# Altium schematic symbol library Sensor_Current.SchLib: 261 symbols (part 1 of 3)
Pins are listed as number, name and electrical type; pins without a type are passive.

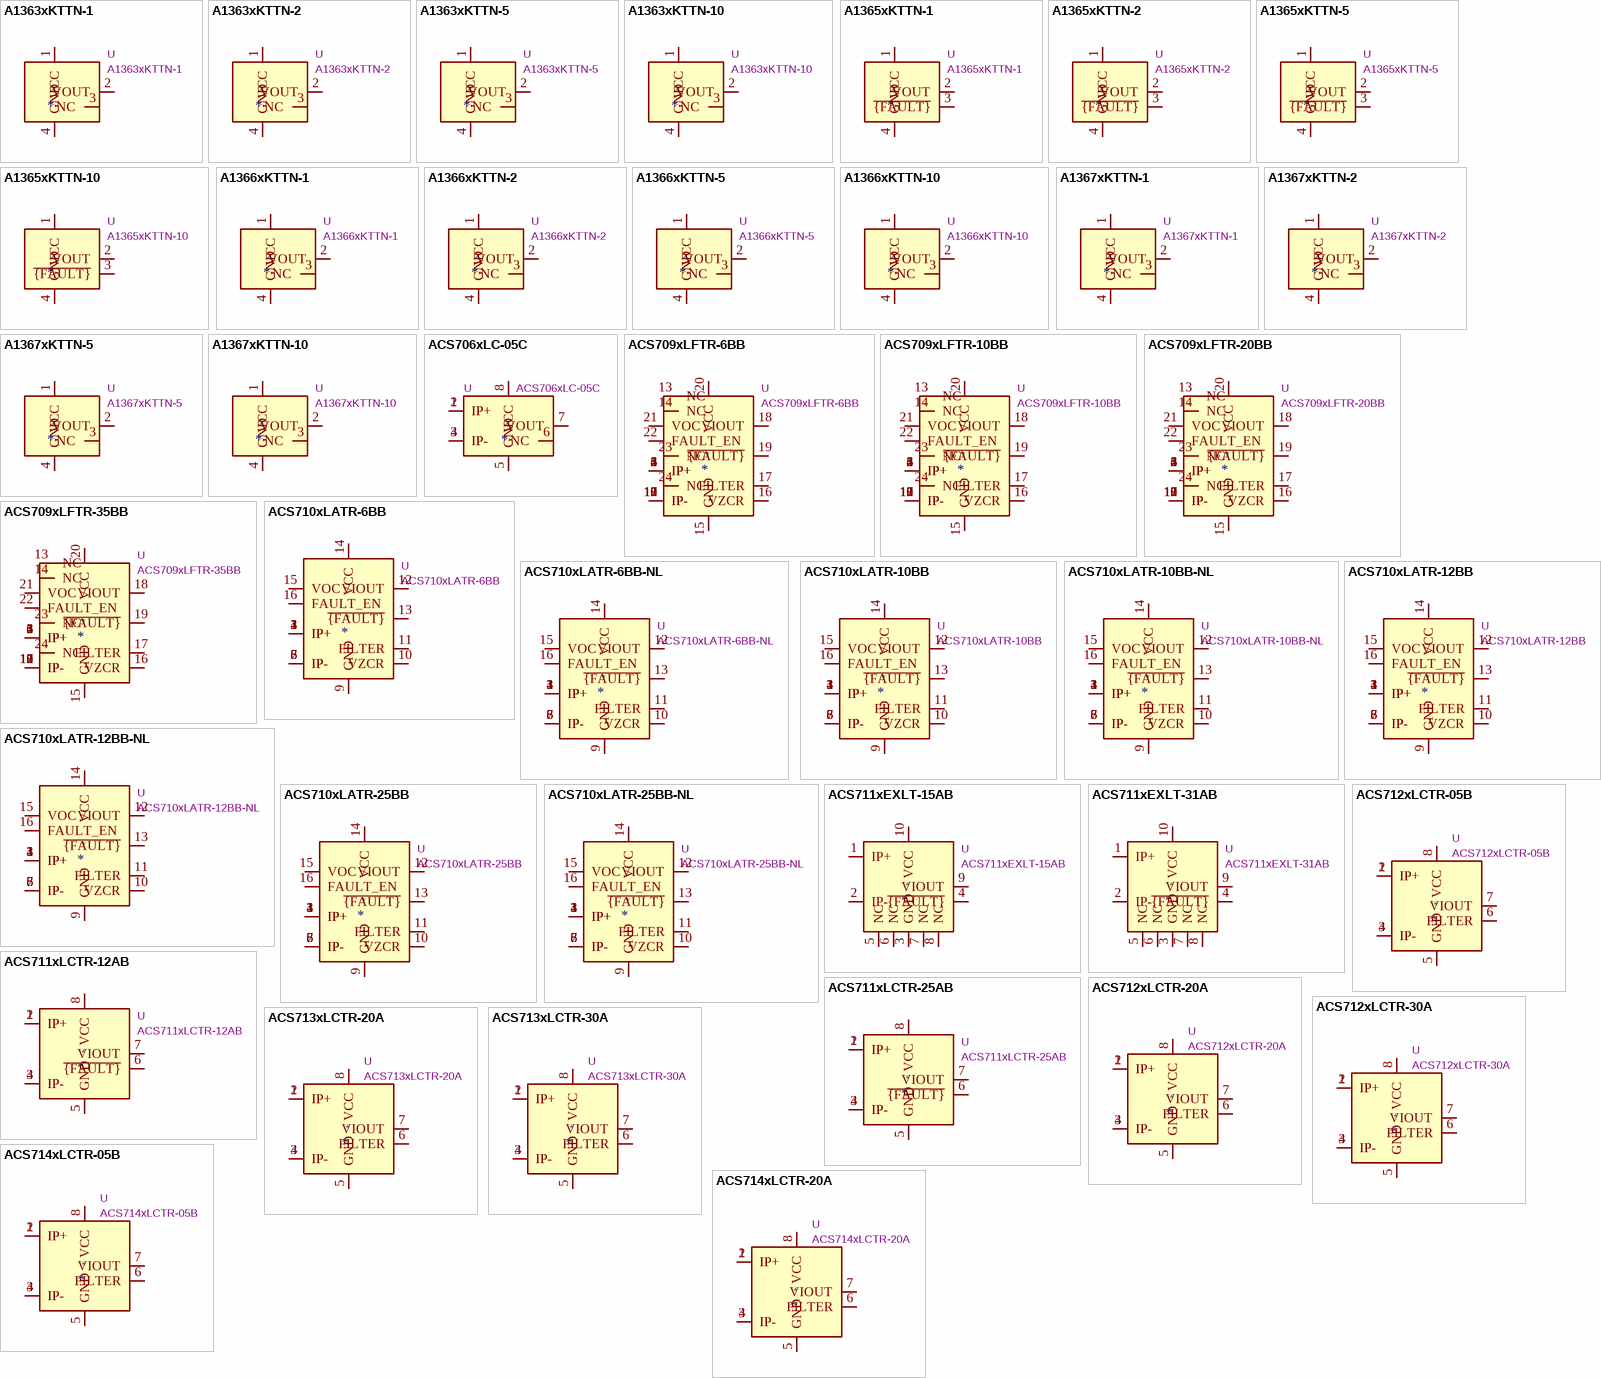
[diagram p0: symbols A1363xKTTN-1 to ACS714xLCTR-20A]

## A1363xKTTN-1
designator *  value A1363xKTTN-1  Reference: U
Programmable Linear Hall Effect Sensor, +0.6 to +1.3mV/G, SIP-4; ki_keywords: hall effect current monitor sensor isolated; ki_fp_filters: Allegro*SIP*; Footprint: Sensor_Current:Allegro_SIP-4; Datasheet: http://www.allegromicro.com/~/media/Files/Datasheets/A1363-Datasheet.ashx?la=en; Description_: Programmable Linear Hall Effect Sensor, +0.6 to +1.3mV/G, SIP-4
pins: 1 VCC, 2 VOUT, 3 NC, 4 GND

## A1363xKTTN-2
designator *  value A1363xKTTN-2  Reference: U
Programmable Linear Hall Effect Sensor, +1.3 to +2.9mV/G, SIP-4; ki_keywords: hall effect current monitor sensor isolated; ki_fp_filters: Allegro*SIP*; Footprint: Sensor_Current:Allegro_SIP-4; Datasheet: http://www.allegromicro.com/~/media/Files/Datasheets/A1363-Datasheet.ashx?la=en; Description_: Programmable Linear Hall Effect Sensor, +1.3 to +2.9mV/G, SIP-4
pins: 1 VCC, 2 VOUT, 3 NC, 4 GND

## A1363xKTTN-5
designator *  value A1363xKTTN-5  Reference: U
Programmable Linear Hall Effect Sensor, +2.9 to +6.4mV/G, SIP-4; ki_keywords: hall effect current monitor sensor isolated; ki_fp_filters: Allegro*SIP*; Footprint: Sensor_Current:Allegro_SIP-4; Datasheet: http://www.allegromicro.com/~/media/Files/Datasheets/A1363-Datasheet.ashx?la=en; Description_: Programmable Linear Hall Effect Sensor, +2.9 to +6.4mV/G, SIP-4
pins: 1 VCC, 2 VOUT, 3 NC, 4 GND

## A1363xKTTN-10
designator *  value A1363xKTTN-10  Reference: U
Programmable Linear Hall Effect Sensor, +6.4 to +14mV/G, SIP-4; ki_keywords: hall effect current monitor sensor isolated; ki_fp_filters: Allegro*SIP*; Footprint: Sensor_Current:Allegro_SIP-4; Datasheet: http://www.allegromicro.com/~/media/Files/Datasheets/A1363-Datasheet.ashx?la=en; Description_: Programmable Linear Hall Effect Sensor, +6.4 to +14mV/G, SIP-4
pins: 1 VCC, 2 VOUT, 3 NC, 4 GND

## A1365xKTTN-1
designator *  value A1365xKTTN-1  Reference: U
Programmable Linear Hall Effect Sensor, +0.6 to +1.3mV/G, SIP-4; ki_keywords: hall effect current monitor sensor isolated; ki_fp_filters: Allegro*SIP*; Footprint: Sensor_Current:Allegro_SIP-4; Datasheet: http://www.allegromicro.com/~/media/Files/Datasheets/A1365-Datasheet.ashx?la=en; Description_: Programmable Linear Hall Effect Sensor, +0.6 to +1.3mV/G, SIP-4
pins: 1 VCC, 2 VOUT, 3 ~{{FAULT}}, 4 GND

## A1365xKTTN-2
designator *  value A1365xKTTN-2  Reference: U
Programmable Linear Hall Effect Sensor, +1.3 to +2.9mV/G, SIP-4; ki_keywords: hall effect current monitor sensor isolated; ki_fp_filters: Allegro*SIP*; Footprint: Sensor_Current:Allegro_SIP-4; Datasheet: http://www.allegromicro.com/~/media/Files/Datasheets/A1365-Datasheet.ashx?la=en; Description_: Programmable Linear Hall Effect Sensor, +1.3 to +2.9mV/G, SIP-4
pins: 1 VCC, 2 VOUT, 3 ~{{FAULT}}, 4 GND

## A1365xKTTN-5
designator *  value A1365xKTTN-5  Reference: U
Programmable Linear Hall Effect Sensor, +2.9 to +6.4mV/G, SIP-4; ki_keywords: hall effect current monitor sensor isolated; ki_fp_filters: Allegro*SIP*; Footprint: Sensor_Current:Allegro_SIP-4; Datasheet: http://www.allegromicro.com/~/media/Files/Datasheets/A1365-Datasheet.ashx?la=en; Description_: Programmable Linear Hall Effect Sensor, +2.9 to +6.4mV/G, SIP-4
pins: 1 VCC, 2 VOUT, 3 ~{{FAULT}}, 4 GND

## A1365xKTTN-10
designator *  value A1365xKTTN-10  Reference: U
Programmable Linear Hall Effect Sensor, +6.4 to +14mV/G, SIP-4; ki_keywords: hall effect current monitor sensor isolated; ki_fp_filters: Allegro*SIP*; Footprint: Sensor_Current:Allegro_SIP-4; Datasheet: http://www.allegromicro.com/~/media/Files/Datasheets/A1365-Datasheet.ashx?la=en; Description_: Programmable Linear Hall Effect Sensor, +6.4 to +14mV/G, SIP-4
pins: 1 VCC, 2 VOUT, 3 ~{{FAULT}}, 4 GND

## A1366xKTTN-1
designator *  value A1366xKTTN-1  Reference: U
Programmable Linear Hall Effect Sensor, +1mV/G, SIP-4; ki_keywords: hall effect current monitor sensor isolated; ki_fp_filters: Allegro*SIP*; Footprint: Sensor_Current:Allegro_SIP-4; Datasheet: http://www.allegromicro.com/~/media/Files/Datasheets/A1366-Datasheet.ashx?la=en; Description_: Programmable Linear Hall Effect Sensor, +1mV/G, SIP-4
pins: 1 VCC, 2 VOUT, 3 NC, 4 GND

## A1366xKTTN-2
designator *  value A1366xKTTN-2  Reference: U
Programmable Linear Hall Effect Sensor, +2.5mV/G, SIP-4; ki_keywords: hall effect current monitor sensor isolated; ki_fp_filters: Allegro*SIP*; Footprint: Sensor_Current:Allegro_SIP-4; Datasheet: http://www.allegromicro.com/~/media/Files/Datasheets/A1366-Datasheet.ashx?la=en; Description_: Programmable Linear Hall Effect Sensor, +2.5mV/G, SIP-4
pins: 1 VCC, 2 VOUT, 3 NC, 4 GND

## A1366xKTTN-5
designator *  value A1366xKTTN-5  Reference: U
Programmable Linear Hall Effect Sensor, +5mV/G, SIP-4; ki_keywords: hall effect current monitor sensor isolated; ki_fp_filters: Allegro*SIP*; Footprint: Sensor_Current:Allegro_SIP-4; Datasheet: http://www.allegromicro.com/~/media/Files/Datasheets/A1366-Datasheet.ashx?la=en; Description_: Programmable Linear Hall Effect Sensor, +5mV/G, SIP-4
pins: 1 VCC, 2 VOUT, 3 NC, 4 GND

## A1366xKTTN-10
designator *  value A1366xKTTN-10  Reference: U
Programmable Linear Hall Effect Sensor, +10mV/G, SIP-4; ki_keywords: hall effect current monitor sensor isolated; ki_fp_filters: Allegro*SIP*; Footprint: Sensor_Current:Allegro_SIP-4; Datasheet: http://www.allegromicro.com/~/media/Files/Datasheets/A1366-Datasheet.ashx?la=en; Description_: Programmable Linear Hall Effect Sensor, +10mV/G, SIP-4
pins: 1 VCC, 2 VOUT, 3 NC, 4 GND

## A1367xKTTN-1
designator *  value A1367xKTTN-1  Reference: U
Programmable Linear Hall Effect Sensor, +0.6 to +1.3mV/G, SIP-4; ki_keywords: hall effect current monitor sensor isolated; ki_fp_filters: Allegro*SIP*; Footprint: Sensor_Current:Allegro_SIP-4; Datasheet: http://www.allegromicro.com/~/media/Files/Datasheets/A1367-Datasheet.ashx?la=en; Description_: Programmable Linear Hall Effect Sensor, +0.6 to +1.3mV/G, SIP-4
pins: 1 VCC, 2 VOUT, 3 NC, 4 GND

## A1367xKTTN-2
designator *  value A1367xKTTN-2  Reference: U
Programmable Linear Hall Effect Sensor, +1.3 to +2.9mV/G, SIP-4; ki_keywords: hall effect current monitor sensor isolated; ki_fp_filters: Allegro*SIP*; Footprint: Sensor_Current:Allegro_SIP-4; Datasheet: http://www.allegromicro.com/~/media/Files/Datasheets/A1367-Datasheet.ashx?la=en; Description_: Programmable Linear Hall Effect Sensor, +1.3 to +2.9mV/G, SIP-4
pins: 1 VCC, 2 VOUT, 3 NC, 4 GND

## A1367xKTTN-5
designator *  value A1367xKTTN-5  Reference: U
Programmable Linear Hall Effect Sensor, +2.9 to +6.4mV/G, SIP-4; ki_keywords: hall effect current monitor sensor isolated; ki_fp_filters: Allegro*SIP*; Footprint: Sensor_Current:Allegro_SIP-4; Datasheet: http://www.allegromicro.com/~/media/Files/Datasheets/A1367-Datasheet.ashx?la=en; Description_: Programmable Linear Hall Effect Sensor, +2.9 to +6.4mV/G, SIP-4
pins: 1 VCC, 2 VOUT, 3 NC, 4 GND

## A1367xKTTN-10
designator *  value A1367xKTTN-10  Reference: U
Programmable Linear Hall Effect Sensor, +6.4 to +14mV/G, SIP-4; ki_keywords: hall effect current monitor sensor isolated; ki_fp_filters: Allegro*SIP*; Footprint: Sensor_Current:Allegro_SIP-4; Datasheet: http://www.allegromicro.com/~/media/Files/Datasheets/A1367-Datasheet.ashx?la=en; Description_: Programmable Linear Hall Effect Sensor, +6.4 to +14mV/G, SIP-4
pins: 1 VCC, 2 VOUT, 3 NC, 4 GND

## ACS706xLC-05C
designator *  value ACS706xLC-05C  Reference: U
±15A Bidirectional Hall Effect Linear Current Sensor, +5.0V supply, 133mV/A, SOIC-8, OBSOLETE; ki_keywords: hall effect current monitor sensor isolated obsolete; ki_fp_filters: SOIC*3.9x4.9mm*P1.27mm*; Footprint: Package_SO:SOIC-8_3.9x4.9mm_P1.27mm; Datasheet: http://www.allegromicro.com/~/media/Files/Datasheets/ACS706ELC-05C-Datasheet.ashx; Description_: ±15A Bidirectional Hall Effect Linear Current Sensor, +5.0V supply, 133mV/A, SOIC-8, OBSOLETE
pins: 1 IP+, 2 IP+, 3 IP-, 4 IP-, 5 GND, 6 NC, 7 VOUT, 8 VCC

## ACS709xLFTR-6BB
designator *  value ACS709xLFTR-6BB  Reference: U
±15A Bidirectional, Hall-Effect Current Sensor, +3.3V to +5.0V supply, 90mV/A @ +3.3V, QSOP-24; ki_keywords: hall effect current monitor sensor isolated; ki_fp_filters: Allegro*QSOP*3.9x8.7mm*P0.635mm*; Footprint: Sensor_Current:Allegro_QSOP-24_3.9x8.7mm_P0.635mm; Datasheet: http://www.allegromicro.com/~/media/Files/Datasheets/ACS709-Datasheet.ashx?la=en; Description_: ±15A Bidirectional, Hall-Effect Current Sensor, +3.3V to +5.0V supply, 90mV/A @ +3.3V, QSOP-24
pins: 1 IP+, 2 IP+, 3 IP+, 4 IP+, 5 IP+, 6 IP+, 7 IP-, 8 IP-, 9 IP-, 10 IP-, 11 IP-, 12 IP-, 13 NC, 14 NC, 15 GND, 16 VZCR, 17 FILTER, 18 VIOUT, 19 ~{{FAULT}}, 20 VCC, 21 VOC, 22 FAULT_EN, 23 NC, 24 NC

## ACS709xLFTR-10BB
designator *  value ACS709xLFTR-10BB  Reference: U
±24A Bidirectional, Hall-Effect Current Sensor, +3.3V to +5.0V supply, 85mV/A @ +3.3V, QSOP-24; ki_keywords: hall effect current monitor sensor isolated; ki_fp_filters: Allegro*QSOP*3.9x8.7mm*P0.635mm*; Footprint: Sensor_Current:Allegro_QSOP-24_3.9x8.7mm_P0.635mm; Datasheet: http://www.allegromicro.com/~/media/Files/Datasheets/ACS709-Datasheet.ashx?la=en; Description_: ±24A Bidirectional, Hall-Effect Current Sensor, +3.3V to +5.0V supply, 85mV/A @ +3.3V, QSOP-24
pins: 1 IP+, 2 IP+, 3 IP+, 4 IP+, 5 IP+, 6 IP+, 7 IP-, 8 IP-, 9 IP-, 10 IP-, 11 IP-, 12 IP-, 13 NC, 14 NC, 15 GND, 16 VZCR, 17 FILTER, 18 VIOUT, 19 ~{{FAULT}}, 20 VCC, 21 VOC, 22 FAULT_EN, 23 NC, 24 NC

## ACS709xLFTR-20BB
designator *  value ACS709xLFTR-20BB  Reference: U
±37.5A Bidirectional, Hall-Effect Current Sensor, +3.3V to +5.0V supply, 56mV/A @ +3.3V, QSOP-24; ki_keywords: hall effect current monitor sensor isolated; ki_fp_filters: Allegro*QSOP*3.9x8.7mm*P0.635mm*; Footprint: Sensor_Current:Allegro_QSOP-24_3.9x8.7mm_P0.635mm; Datasheet: http://www.allegromicro.com/~/media/Files/Datasheets/ACS709-Datasheet.ashx?la=en; Description_: ±37.5A Bidirectional, Hall-Effect Current Sensor, +3.3V to +5.0V supply, 56mV/A @ +3.3V, QSOP-24
pins: 1 IP+, 2 IP+, 3 IP+, 4 IP+, 5 IP+, 6 IP+, 7 IP-, 8 IP-, 9 IP-, 10 IP-, 11 IP-, 12 IP-, 13 NC, 14 NC, 15 GND, 16 VZCR, 17 FILTER, 18 VIOUT, 19 ~{{FAULT}}, 20 VCC, 21 VOC, 22 FAULT_EN, 23 NC, 24 NC

## ACS709xLFTR-35BB
designator *  value ACS709xLFTR-35BB  Reference: U
±75A Bidirectional, Hall-Effect Current Sensor, +3.3V to +5.0V supply, 28mV/A @ +3.3V, QSOP-24; ki_keywords: hall effect current monitor sensor isolated; ki_fp_filters: Allegro*QSOP*3.9x8.7mm*P0.635mm*; Footprint: Sensor_Current:Allegro_QSOP-24_3.9x8.7mm_P0.635mm; Datasheet: http://www.allegromicro.com/~/media/Files/Datasheets/ACS709-Datasheet.ashx?la=en; Description_: ±75A Bidirectional, Hall-Effect Current Sensor, +3.3V to +5.0V supply, 28mV/A @ +3.3V, QSOP-24
pins: 1 IP+, 2 IP+, 3 IP+, 4 IP+, 5 IP+, 6 IP+, 7 IP-, 8 IP-, 9 IP-, 10 IP-, 11 IP-, 12 IP-, 13 NC, 14 NC, 15 GND, 16 VZCR, 17 FILTER, 18 VIOUT, 19 ~{{FAULT}}, 20 VCC, 21 VOC, 22 FAULT_EN, 23 NC, 24 NC

## ACS710xLATR-6BB
designator *  value ACS710xLATR-6BB  Reference: U
±6A Bidirectional, Hall-Effect Current Sensor, Latched Fault, +3.3V to +5.0V supply, 151mV/A @ +5.0V, SOIC-16W; ki_keywords: hall effect current monitor sensor isolated; ki_fp_filters: SOIC*7.5x10.3mm*P1.27mm*; Footprint: Package_SO:SOIC-16W_7.5x10.3mm_P1.27mm; Datasheet: http://www.allegromicro.com/~/media/Files/Datasheets/ACS710-Datasheet.ashx?la=en; Description_: ±6A Bidirectional, Hall-Effect Current Sensor, Latched Fault, +3.3V to +5.0V supply, 151mV/A @ +5.0V, SOIC-16W
pins: 1 IP+, 2 IP+, 3 IP+, 4 IP+, 5 IP-, 6 IP-, 7 IP-, 8 IP-, 9 GND, 10 VZCR, 11 FILTER, 12 VIOUT, 13 ~{{FAULT}}, 14 VCC, 15 VOC, 16 FAULT_EN

## ACS710xLATR-6BB-NL
designator *  value ACS710xLATR-6BB-NL  Reference: U
±6A Bidirectional, Hall-Effect Current Sensor, +3.3V to +5.0V supply, 151mV/A @ +5.0V, SOIC-16W; ki_keywords: hall effect current monitor sensor isolated; ki_fp_filters: SOIC*7.5x10.3mm*P1.27mm*; Footprint: Package_SO:SOIC-16W_7.5x10.3mm_P1.27mm; Datasheet: http://www.allegromicro.com/~/media/Files/Datasheets/ACS710-Datasheet.ashx?la=en; Description_: ±6A Bidirectional, Hall-Effect Current Sensor, +3.3V to +5.0V supply, 151mV/A @ +5.0V, SOIC-16W
pins: 1 IP+, 2 IP+, 3 IP+, 4 IP+, 5 IP-, 6 IP-, 7 IP-, 8 IP-, 9 GND, 10 VZCR, 11 FILTER, 12 VIOUT, 13 ~{{FAULT}}, 14 VCC, 15 VOC, 16 FAULT_EN

## ACS710xLATR-10BB
designator *  value ACS710xLATR-10BB  Reference: U
±12A Bidirectional, Hall-Effect Current Sensor, Latched Fault, +3.3V to +5.0V supply, 85mV/A @ +5.0V, SOIC-16W; ki_keywords: hall effect current monitor sensor isolated; ki_fp_filters: SOIC*7.5x10.3mm*P1.27mm*; Footprint: Package_SO:SOIC-16W_7.5x10.3mm_P1.27mm; Datasheet: http://www.allegromicro.com/~/media/Files/Datasheets/ACS710-Datasheet.ashx?la=en; Description_: ±12A Bidirectional, Hall-Effect Current Sensor, Latched Fault, +3.3V to +5.0V supply, 85mV/A @ +5.0V, SOIC-16W
pins: 1 IP+, 2 IP+, 3 IP+, 4 IP+, 5 IP-, 6 IP-, 7 IP-, 8 IP-, 9 GND, 10 VZCR, 11 FILTER, 12 VIOUT, 13 ~{{FAULT}}, 14 VCC, 15 VOC, 16 FAULT_EN

## ACS710xLATR-10BB-NL
designator *  value ACS710xLATR-10BB-NL  Reference: U
±12A Bidirectional, Hall-Effect Current Sensor, +3.3V to +5.0V supply, 85mV/A @ +5.0V, SOIC-16W; ki_keywords: hall effect current monitor sensor isolated; ki_fp_filters: SOIC*7.5x10.3mm*P1.27mm*; Footprint: Package_SO:SOIC-16W_7.5x10.3mm_P1.27mm; Datasheet: http://www.allegromicro.com/~/media/Files/Datasheets/ACS710-Datasheet.ashx?la=en; Description_: ±12A Bidirectional, Hall-Effect Current Sensor, +3.3V to +5.0V supply, 85mV/A @ +5.0V, SOIC-16W
pins: 1 IP+, 2 IP+, 3 IP+, 4 IP+, 5 IP-, 6 IP-, 7 IP-, 8 IP-, 9 GND, 10 VZCR, 11 FILTER, 12 VIOUT, 13 ~{{FAULT}}, 14 VCC, 15 VOC, 16 FAULT_EN

## ACS710xLATR-12BB
designator *  value ACS710xLATR-12BB  Reference: U
±12.5A Bidirectional, Hall-Effect Current Sensor, Latched Fault, +3.3V to +5.0V supply, 56mV/A @ +5.0V, SOIC-16W; ki_keywords: hall effect current monitor sensor isolated; ki_fp_filters: SOIC*7.5x10.3mm*P1.27mm*; Footprint: Package_SO:SOIC-16W_7.5x10.3mm_P1.27mm; Datasheet: http://www.allegromicro.com/~/media/Files/Datasheets/ACS710-Datasheet.ashx?la=en; Description_: ±12.5A Bidirectional, Hall-Effect Current Sensor, Latched Fault, +3.3V to +5.0V supply, 56mV/A @ +5.0V, SOIC-16W
pins: 1 IP+, 2 IP+, 3 IP+, 4 IP+, 5 IP-, 6 IP-, 7 IP-, 8 IP-, 9 GND, 10 VZCR, 11 FILTER, 12 VIOUT, 13 ~{{FAULT}}, 14 VCC, 15 VOC, 16 FAULT_EN

## ACS710xLATR-12BB-NL
designator *  value ACS710xLATR-12BB-NL  Reference: U
±12.5A Bidirectional, Hall-Effect Current Sensor, +3.3V to +5.0V supply, 56mV/A @ +5.0V, SOIC-16W; ki_keywords: hall effect current monitor sensor isolated; ki_fp_filters: SOIC*7.5x10.3mm*P1.27mm*; Footprint: Package_SO:SOIC-16W_7.5x10.3mm_P1.27mm; Datasheet: http://www.allegromicro.com/~/media/Files/Datasheets/ACS710-Datasheet.ashx?la=en; Description_: ±12.5A Bidirectional, Hall-Effect Current Sensor, +3.3V to +5.0V supply, 56mV/A @ +5.0V, SOIC-16W
pins: 1 IP+, 2 IP+, 3 IP+, 4 IP+, 5 IP-, 6 IP-, 7 IP-, 8 IP-, 9 GND, 10 VZCR, 11 FILTER, 12 VIOUT, 13 ~{{FAULT}}, 14 VCC, 15 VOC, 16 FAULT_EN

## ACS710xLATR-25BB
designator *  value ACS710xLATR-25BB  Reference: U
±25A Bidirectional, Hall-Effect Current Sensor, Latched Fault, +3.3V to +5.0V supply, 28mV/A @ +5.0V, SOIC-16W; ki_keywords: hall effect current monitor sensor isolated; ki_fp_filters: SOIC*7.5x10.3mm*P1.27mm*; Footprint: Package_SO:SOIC-16W_7.5x10.3mm_P1.27mm; Datasheet: http://www.allegromicro.com/~/media/Files/Datasheets/ACS710-Datasheet.ashx?la=en; Description_: ±25A Bidirectional, Hall-Effect Current Sensor, Latched Fault, +3.3V to +5.0V supply, 28mV/A @ +5.0V, SOIC-16W
pins: 1 IP+, 2 IP+, 3 IP+, 4 IP+, 5 IP-, 6 IP-, 7 IP-, 8 IP-, 9 GND, 10 VZCR, 11 FILTER, 12 VIOUT, 13 ~{{FAULT}}, 14 VCC, 15 VOC, 16 FAULT_EN

## ACS710xLATR-25BB-NL
designator *  value ACS710xLATR-25BB-NL  Reference: U
±25A Bidirectional, Hall-Effect Current Sensor, +3.3V to +5.0V supply, 28mV/A @ +5.0V, SOIC-16W; ki_keywords: hall effect current monitor sensor isolated; ki_fp_filters: SOIC*7.5x10.3mm*P1.27mm*; Footprint: Package_SO:SOIC-16W_7.5x10.3mm_P1.27mm; Datasheet: http://www.allegromicro.com/~/media/Files/Datasheets/ACS710-Datasheet.ashx?la=en; Description_: ±25A Bidirectional, Hall-Effect Current Sensor, +3.3V to +5.0V supply, 28mV/A @ +5.0V, SOIC-16W
pins: 1 IP+, 2 IP+, 3 IP+, 4 IP+, 5 IP-, 6 IP-, 7 IP-, 8 IP-, 9 GND, 10 VZCR, 11 FILTER, 12 VIOUT, 13 ~{{FAULT}}, 14 VCC, 15 VOC, 16 FAULT_EN

## ACS711xEXLT-15AB
designator *  value ACS711xEXLT-15AB  Reference: U
±15A Bidirectional Hall-Effect Current Sensor, +3.3V supply, 90mV/A, QFN-12; ki_keywords: hall effect current monitor sensor isolated; ki_fp_filters: Allegro*QFN*EP*3x3mm*P0.5mm*; Footprint: Sensor_Current:Allegro_QFN-12-10-1EP_3x3mm_P0.5mm; Datasheet: http://www.allegromicro.com/~/Media/Files/Datasheets/ACS711-Datasheet.ashx; Description_: ±15A Bidirectional Hall-Effect Current Sensor, +3.3V supply, 90mV/A, QFN-12
pins: 1 IP+, 2 IP-, 3 GND, 4 ~{{FAULT}}, 5 NC, 6 NC, 7 NC, 8 NC, 9 VIOUT, 10 VCC

## ACS711xEXLT-31AB
designator *  value ACS711xEXLT-31AB  Reference: U
±31A Bidirectional, Hall-Effect Current Sensor, +3.3V supply, 45mV/A, QFN-12; ki_keywords: hall effect current monitor sensor isolated; ki_fp_filters: Allegro*QFN*EP*3x3mm*P0.5mm*; Footprint: Sensor_Current:Allegro_QFN-12-10-1EP_3x3mm_P0.5mm; Datasheet: http://www.allegromicro.com/~/Media/Files/Datasheets/ACS711-Datasheet.ashx; Description_: ±31A Bidirectional, Hall-Effect Current Sensor, +3.3V supply, 45mV/A, QFN-12
pins: 1 IP+, 2 IP-, 3 GND, 4 ~{{FAULT}}, 5 NC, 6 NC, 7 NC, 8 NC, 9 VIOUT, 10 VCC

## ACS711xLCTR-12AB
designator *  value ACS711xLCTR-12AB  Reference: U
±12.5A Bidirectional Hall-Effect Current Sensor, +3.3V supply, 110mV/A, SOIC-8; ki_keywords: hall effect current monitor sensor isolated; ki_fp_filters: SOIC*3.9x4.9mm*P1.27mm*; Footprint: Package_SO:SOIC-8_3.9x4.9mm_P1.27mm; Datasheet: http://www.allegromicro.com/~/Media/Files/Datasheets/ACS711-Datasheet.ashx; Description_: ±12.5A Bidirectional Hall-Effect Current Sensor, +3.3V supply, 110mV/A, SOIC-8
pins: 1 IP+, 2 IP+, 3 IP-, 4 IP-, 5 GND, 6 ~{{FAULT}}, 7 VIOUT, 8 VCC

## ACS711xLCTR-25AB
designator *  value ACS711xLCTR-25AB  Reference: U
±25A, Bidirectional, Hall-Effect Current Sensor, +3.3V supply, 55mV/A, SOIC-8; ki_keywords: hall effect current monitor sensor isolated; ki_fp_filters: SOIC*3.9x4.9mm*P1.27mm*; Footprint: Package_SO:SOIC-8_3.9x4.9mm_P1.27mm; Datasheet: http://www.allegromicro.com/~/Media/Files/Datasheets/ACS711-Datasheet.ashx; Description_: ±25A, Bidirectional, Hall-Effect Current Sensor, +3.3V supply, 55mV/A, SOIC-8
pins: 1 IP+, 2 IP+, 3 IP-, 4 IP-, 5 GND, 6 ~{{FAULT}}, 7 VIOUT, 8 VCC

## ACS712xLCTR-05B
designator *  value ACS712xLCTR-05B  Reference: U
±5A Bidirectional Hall-Effect Current Sensor, +5.0V supply, 185mV/A, SOIC-8; ki_keywords: hall effect current monitor sensor isolated; ki_fp_filters: SOIC*3.9x4.9m*P1.27mm*; Footprint: Package_SO:SOIC-8_3.9x4.9mm_P1.27mm; Datasheet: http://www.allegromicro.com/~/media/Files/Datasheets/ACS712-Datasheet.ashx?la=en; Description_: ±5A Bidirectional Hall-Effect Current Sensor, +5.0V supply, 185mV/A, SOIC-8
pins: 1 IP+, 2 IP+, 3 IP-, 4 IP-, 5 GND, 6 FILTER, 7 VIOUT, 8 VCC

## ACS712xLCTR-20A
designator *  value ACS712xLCTR-20A  Reference: U
±20A Bidirectional Hall-Effect Current Sensor, +5.0V supply, 100mV/A, SOIC-8; ki_keywords: hall effect current monitor sensor isolated; ki_fp_filters: SOIC*3.9x4.9m*P1.27mm*; Footprint: Package_SO:SOIC-8_3.9x4.9mm_P1.27mm; Datasheet: http://www.allegromicro.com/~/media/Files/Datasheets/ACS712-Datasheet.ashx?la=en; Description_: ±20A Bidirectional Hall-Effect Current Sensor, +5.0V supply, 100mV/A, SOIC-8
pins: 1 IP+, 2 IP+, 3 IP-, 4 IP-, 5 GND, 6 FILTER, 7 VIOUT, 8 VCC

## ACS712xLCTR-30A
designator *  value ACS712xLCTR-30A  Reference: U
±30A Bidirectional Hall-Effect Current Sensor, +5.0V supply, 66mV/A, SOIC-8; ki_keywords: hall effect current monitor sensor isolated; ki_fp_filters: SOIC*3.9x4.9m*P1.27mm*; Footprint: Package_SO:SOIC-8_3.9x4.9mm_P1.27mm; Datasheet: http://www.allegromicro.com/~/media/Files/Datasheets/ACS712-Datasheet.ashx?la=en; Description_: ±30A Bidirectional Hall-Effect Current Sensor, +5.0V supply, 66mV/A, SOIC-8
pins: 1 IP+, 2 IP+, 3 IP-, 4 IP-, 5 GND, 6 FILTER, 7 VIOUT, 8 VCC

## ACS713xLCTR-20A
designator *  value ACS713xLCTR-20A  Reference: U
20A Unidirectional Hall-Effect Current Sensor, +5.0V supply, 185mV/A, SOIC-8; ki_keywords: hall effect current monitor sensor isolated; ki_fp_filters: SOIC*3.9x4.9m*P1.27mm*; Footprint: Package_SO:SOIC-8_3.9x4.9mm_P1.27mm; Datasheet: http://www.allegromicro.com/~/media/Files/Datasheets/ACS713-Datasheet.ashx?la=en; Description_: 20A Unidirectional Hall-Effect Current Sensor, +5.0V supply, 185mV/A, SOIC-8
pins: 1 IP+, 2 IP+, 3 IP-, 4 IP-, 5 GND, 6 FILTER, 7 VIOUT, 8 VCC

## ACS713xLCTR-30A
designator *  value ACS713xLCTR-30A  Reference: U
30A Unidirectional Hall-Effect Current Sensor, +5.0V supply, 133mV/A, SOIC-8; ki_keywords: hall effect current monitor sensor isolated; ki_fp_filters: SOIC*3.9x4.9m*P1.27mm*; Footprint: Package_SO:SOIC-8_3.9x4.9mm_P1.27mm; Datasheet: http://www.allegromicro.com/~/media/Files/Datasheets/ACS713-Datasheet.ashx?la=en; Description_: 30A Unidirectional Hall-Effect Current Sensor, +5.0V supply, 133mV/A, SOIC-8
pins: 1 IP+, 2 IP+, 3 IP-, 4 IP-, 5 GND, 6 FILTER, 7 VIOUT, 8 VCC

## ACS714xLCTR-05B
designator *  value ACS714xLCTR-05B  Reference: U
±5A Bidirectional Hall-Effect Current Sensor, +5.0V supply, 185mV/A, SOIC-8; ki_keywords: hall effect current monitor sensor isolated; ki_fp_filters: SOIC*3.9x4.9m*P1.27mm*; Footprint: Package_SO:SOIC-8_3.9x4.9mm_P1.27mm; Datasheet: http://www.allegromicro.com/~/media/Files/Datasheets/ACS714-Datasheet.ashx?la=en; Description_: ±5A Bidirectional Hall-Effect Current Sensor, +5.0V supply, 185mV/A, SOIC-8
pins: 1 IP+, 2 IP+, 3 IP-, 4 IP-, 5 GND, 6 FILTER, 7 VIOUT, 8 VCC

## ACS714xLCTR-20A
designator *  value ACS714xLCTR-20A  Reference: U
±20A Bidirectional Hall-Effect Current Sensor, +5.0V supply, 100mV/A, SOIC-8; ki_keywords: hall effect current monitor sensor isolated; ki_fp_filters: SOIC*3.9x4.9m*P1.27mm*; Footprint: Package_SO:SOIC-8_3.9x4.9mm_P1.27mm; Datasheet: http://www.allegromicro.com/~/media/Files/Datasheets/ACS714-Datasheet.ashx?la=en; Description_: ±20A Bidirectional Hall-Effect Current Sensor, +5.0V supply, 100mV/A, SOIC-8
pins: 1 IP+, 2 IP+, 3 IP-, 4 IP-, 5 GND, 6 FILTER, 7 VIOUT, 8 VCC

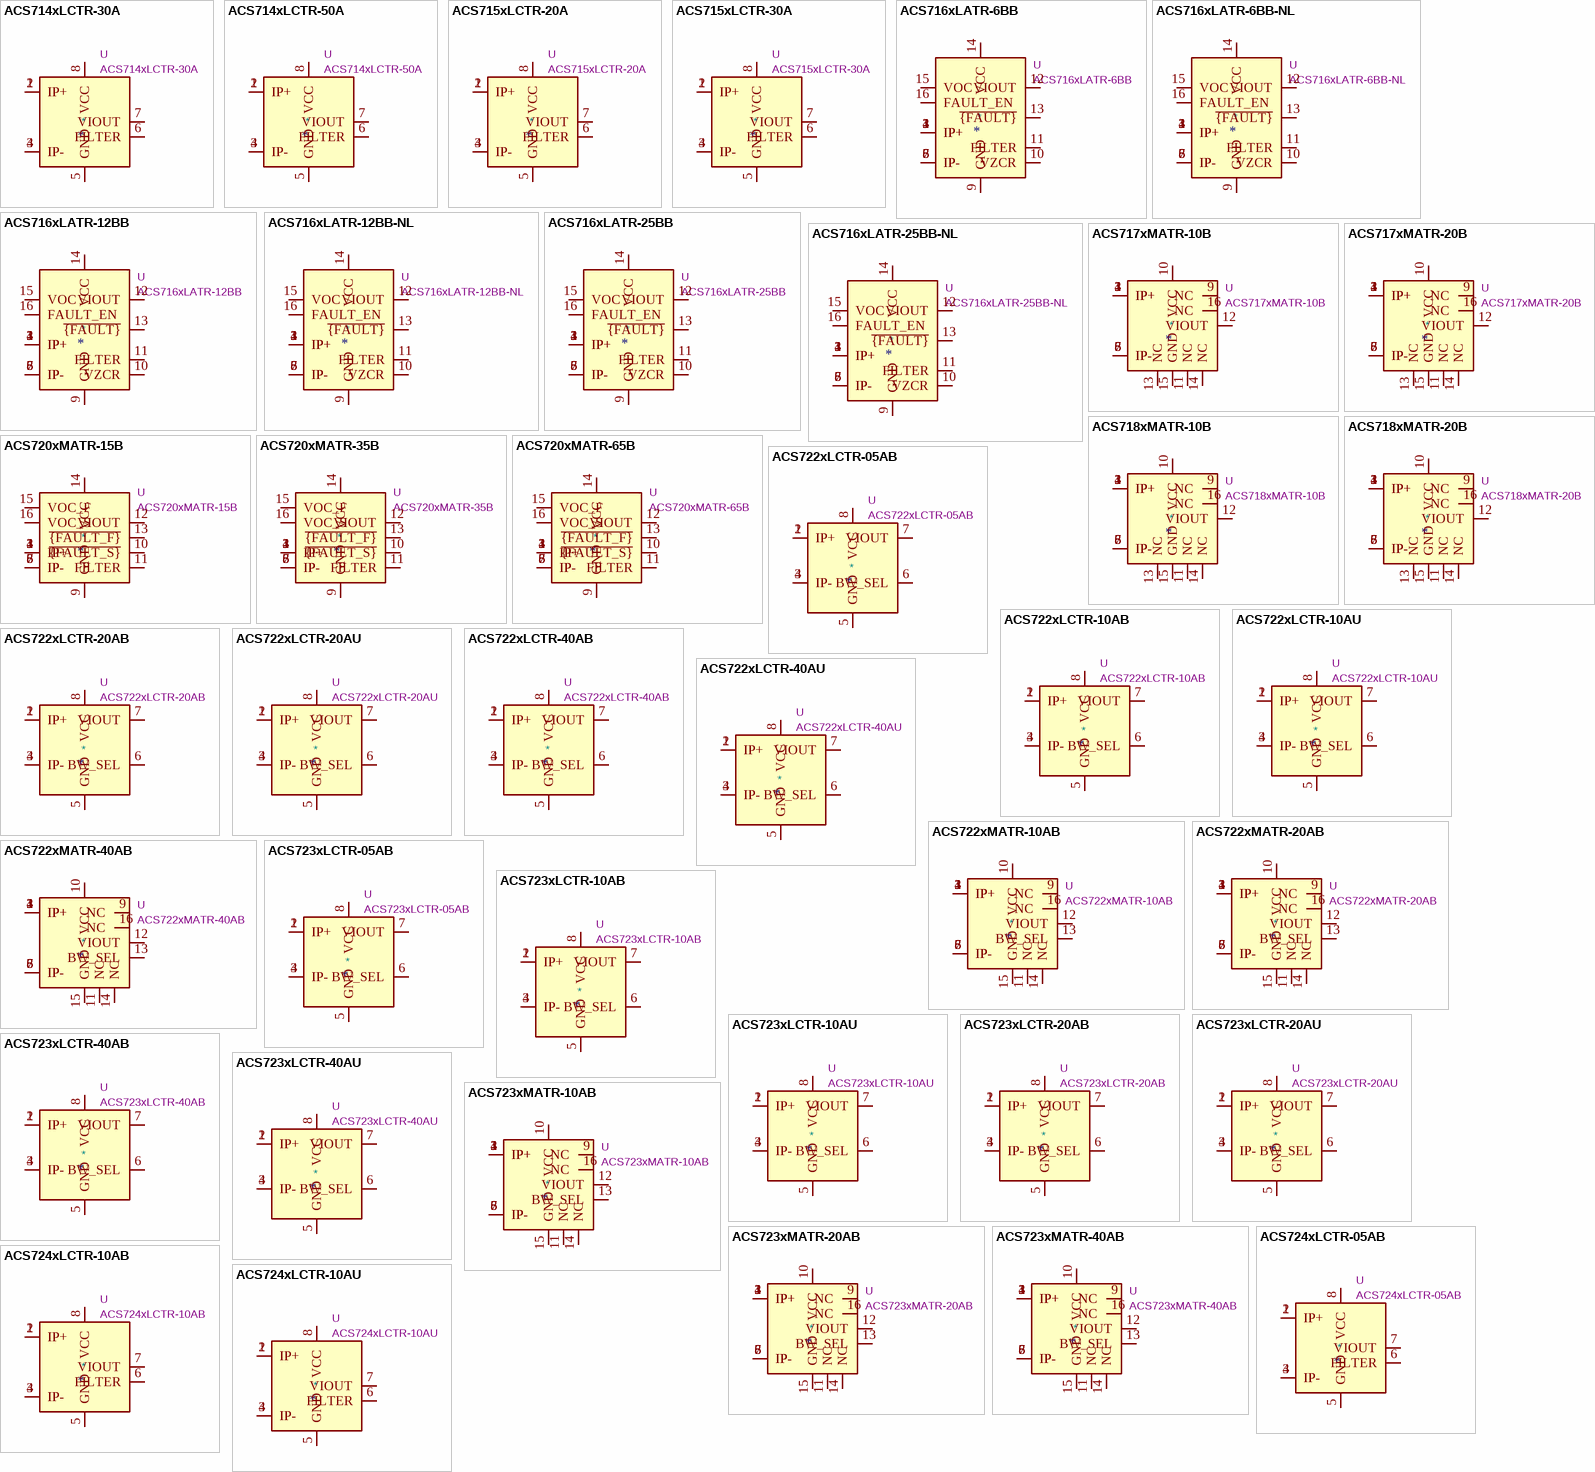
[diagram p1: symbols ACS714xLCTR-30A to ACS724xLCTR-10AU]

## ACS714xLCTR-30A
designator *  value ACS714xLCTR-30A  Reference: U
±30A Bidirectional Hall-Effect Current Sensor, +5.0V supply, 66mV/A, SOIC-8; ki_keywords: hall effect current monitor sensor isolated; ki_fp_filters: SOIC*3.9x4.9m*P1.27mm*; Footprint: Package_SO:SOIC-8_3.9x4.9mm_P1.27mm; Datasheet: http://www.allegromicro.com/~/media/Files/Datasheets/ACS714-Datasheet.ashx?la=en; Description_: ±30A Bidirectional Hall-Effect Current Sensor, +5.0V supply, 66mV/A, SOIC-8
pins: 1 IP+, 2 IP+, 3 IP-, 4 IP-, 5 GND, 6 FILTER, 7 VIOUT, 8 VCC

## ACS714xLCTR-50A
designator *  value ACS714xLCTR-50A  Reference: U
±50A Bidirectional Hall-Effect Current Sensor, +5.0V supply, 40mV/A, SOIC-8; ki_keywords: hall effect current monitor sensor isolated; ki_fp_filters: SOIC*3.9x4.9m*P1.27mm*; Footprint: Package_SO:SOIC-8_3.9x4.9mm_P1.27mm; Datasheet: http://www.allegromicro.com/~/media/Files/Datasheets/ACS714-Datasheet.ashx?la=en; Description_: ±50A Bidirectional Hall-Effect Current Sensor, +5.0V supply, 40mV/A, SOIC-8
pins: 1 IP+, 2 IP+, 3 IP-, 4 IP-, 5 GND, 6 FILTER, 7 VIOUT, 8 VCC

## ACS715xLCTR-20A
designator *  value ACS715xLCTR-20A  Reference: U
20A Unidirectional Hall-Effect Current Sensor, +5.0V supply, 185mV/A, SOIC-8; ki_keywords: hall effect current monitor sensor isolated; ki_fp_filters: SOIC*3.9x4.9m*P1.27mm*; Footprint: Package_SO:SOIC-8_3.9x4.9mm_P1.27mm; Datasheet: http://www.allegromicro.com/~/media/Files/Datasheets/ACS715-Datasheet.ashx?la=en; Description_: 20A Unidirectional Hall-Effect Current Sensor, +5.0V supply, 185mV/A, SOIC-8
pins: 1 IP+, 2 IP+, 3 IP-, 4 IP-, 5 GND, 6 FILTER, 7 VIOUT, 8 VCC

## ACS715xLCTR-30A
designator *  value ACS715xLCTR-30A  Reference: U
30A Unidirectional Hall-Effect Current Sensor, +5.0V supply, 133mV/A, SOIC-8; ki_keywords: hall effect current monitor sensor isolated; ki_fp_filters: SOIC*3.9x4.9m*P1.27mm*; Footprint: Package_SO:SOIC-8_3.9x4.9mm_P1.27mm; Datasheet: http://www.allegromicro.com/~/media/Files/Datasheets/ACS715-Datasheet.ashx?la=en; Description_: 30A Unidirectional Hall-Effect Current Sensor, +5.0V supply, 133mV/A, SOIC-8
pins: 1 IP+, 2 IP+, 3 IP-, 4 IP-, 5 GND, 6 FILTER, 7 VIOUT, 8 VCC

## ACS716xLATR-6BB
designator *  value ACS716xLATR-6BB  Reference: U
±6A Bidirectional, Hall-Effect Current Sensor, Latched Fault, +3.3V supply, 100mV/A, SOIC-16W; ki_keywords: hall effect current monitor sensor isolated; ki_fp_filters: SOIC*7.5x10.3mm*P1.27mm*; Footprint: Package_SO:SOIC-16W_7.5x10.3mm_P1.27mm; Datasheet: http://www.allegromicro.com/~/media/Files/Datasheets/ACS716-Datasheet.ashx?la=en; Description_: ±6A Bidirectional, Hall-Effect Current Sensor, Latched Fault, +3.3V supply, 100mV/A, SOIC-16W
pins: 1 IP+, 2 IP+, 3 IP+, 4 IP+, 5 IP-, 6 IP-, 7 IP-, 8 IP-, 9 GND, 10 VZCR, 11 FILTER, 12 VIOUT, 13 ~{{FAULT}}, 14 VCC, 15 VOC, 16 FAULT_EN

## ACS716xLATR-6BB-NL
designator *  value ACS716xLATR-6BB-NL  Reference: U
±6A Bidirectional, Hall-Effect Current Sensor, +3.3V supply, 100mV/A, SOIC-16W; ki_keywords: hall effect current monitor sensor isolated; ki_fp_filters: SOIC*7.5x10.3mm*P1.27mm*; Footprint: Package_SO:SOIC-16W_7.5x10.3mm_P1.27mm; Datasheet: http://www.allegromicro.com/~/media/Files/Datasheets/ACS716-Datasheet.ashx?la=en; Description_: ±6A Bidirectional, Hall-Effect Current Sensor, +3.3V supply, 100mV/A, SOIC-16W
pins: 1 IP+, 2 IP+, 3 IP+, 4 IP+, 5 IP-, 6 IP-, 7 IP-, 8 IP-, 9 GND, 10 VZCR, 11 FILTER, 12 VIOUT, 13 ~{{FAULT}}, 14 VCC, 15 VOC, 16 FAULT_EN

## ACS716xLATR-12BB
designator *  value ACS716xLATR-12BB  Reference: U
±12.5A Bidirectional, Hall-Effect Current Sensor, Latched Fault, +3.3V supply, 37mV/A, SOIC-16W; ki_keywords: hall effect current monitor sensor isolated; ki_fp_filters: SOIC*7.5x10.3mm*P1.27mm*; Footprint: Package_SO:SOIC-16W_7.5x10.3mm_P1.27mm; Datasheet: http://www.allegromicro.com/~/media/Files/Datasheets/ACS716-Datasheet.ashx?la=en; Description_: ±12.5A Bidirectional, Hall-Effect Current Sensor, Latched Fault, +3.3V supply, 37mV/A, SOIC-16W
pins: 1 IP+, 2 IP+, 3 IP+, 4 IP+, 5 IP-, 6 IP-, 7 IP-, 8 IP-, 9 GND, 10 VZCR, 11 FILTER, 12 VIOUT, 13 ~{{FAULT}}, 14 VCC, 15 VOC, 16 FAULT_EN

## ACS716xLATR-12BB-NL
designator *  value ACS716xLATR-12BB-NL  Reference: U
±12.5A Bidirectional, Hall-Effect Current Sensor, +3.3V supply, 37mV/A, SOIC-16W; ki_keywords: hall effect current monitor sensor isolated; ki_fp_filters: SOIC*7.5x10.3mm*P1.27mm*; Footprint: Package_SO:SOIC-16W_7.5x10.3mm_P1.27mm; Datasheet: http://www.allegromicro.com/~/media/Files/Datasheets/ACS716-Datasheet.ashx?la=en; Description_: ±12.5A Bidirectional, Hall-Effect Current Sensor, +3.3V supply, 37mV/A, SOIC-16W
pins: 1 IP+, 2 IP+, 3 IP+, 4 IP+, 5 IP-, 6 IP-, 7 IP-, 8 IP-, 9 GND, 10 VZCR, 11 FILTER, 12 VIOUT, 13 ~{{FAULT}}, 14 VCC, 15 VOC, 16 FAULT_EN

## ACS716xLATR-25BB
designator *  value ACS716xLATR-25BB  Reference: U
±25A Bidirectional, Hall-Effect Current Sensor, Latched Fault, +3.3V supply, 18.5mV/A, SOIC-16W; ki_keywords: hall effect current monitor sensor isolated; ki_fp_filters: SOIC*7.5x10.3mm*P1.27mm*; Footprint: Package_SO:SOIC-16W_7.5x10.3mm_P1.27mm; Datasheet: http://www.allegromicro.com/~/media/Files/Datasheets/ACS716-Datasheet.ashx?la=en; Description_: ±25A Bidirectional, Hall-Effect Current Sensor, Latched Fault, +3.3V supply, 18.5mV/A, SOIC-16W
pins: 1 IP+, 2 IP+, 3 IP+, 4 IP+, 5 IP-, 6 IP-, 7 IP-, 8 IP-, 9 GND, 10 VZCR, 11 FILTER, 12 VIOUT, 13 ~{{FAULT}}, 14 VCC, 15 VOC, 16 FAULT_EN

## ACS716xLATR-25BB-NL
designator *  value ACS716xLATR-25BB-NL  Reference: U
±25A Bidirectional, Hall-Effect Current Sensor, +3.3V supply, 18.5mV/A, SOIC-16W; ki_keywords: hall effect current monitor sensor isolated; ki_fp_filters: SOIC*7.5x10.3mm*P1.27mm*; Footprint: Package_SO:SOIC-16W_7.5x10.3mm_P1.27mm; Datasheet: http://www.allegromicro.com/~/media/Files/Datasheets/ACS716-Datasheet.ashx?la=en; Description_: ±25A Bidirectional, Hall-Effect Current Sensor, +3.3V supply, 18.5mV/A, SOIC-16W
pins: 1 IP+, 2 IP+, 3 IP+, 4 IP+, 5 IP-, 6 IP-, 7 IP-, 8 IP-, 9 GND, 10 VZCR, 11 FILTER, 12 VIOUT, 13 ~{{FAULT}}, 14 VCC, 15 VOC, 16 FAULT_EN

## ACS717xMATR-10B
designator *  value ACS717xMATR-10B  Reference: U
±10A Bidirectional, Hall-Effect Current Sensor, +3.3V supply, 133mV/A, SOIC-16W; ki_keywords: hall effect current monitor sensor isolated; ki_fp_filters: SOIC*7.5x10.3mm*P1.27mm*; Footprint: Package_SO:SOIC-16W_7.5x10.3mm_P1.27mm; Datasheet: http://www.allegromicro.com/~/media/Files/Datasheets/ACS717-Datasheet.ashx?la=en; Description_: ±10A Bidirectional, Hall-Effect Current Sensor, +3.3V supply, 133mV/A, SOIC-16W
pins: 1 IP+, 2 IP+, 3 IP+, 4 IP+, 5 IP-, 6 IP-, 7 IP-, 8 IP-, 9 NC, 10 VCC, 11 NC, 12 VIOUT, 13 NC, 14 NC, 15 GND, 16 NC

## ACS717xMATR-20B
designator *  value ACS717xMATR-20B  Reference: U
±20A Bidirectional, Hall-Effect Current Sensor, +3.3V supply, 66mV/A, SOIC-16W; ki_keywords: hall effect current monitor sensor isolated; ki_fp_filters: SOIC*7.5x10.3mm*P1.27mm*; Footprint: Package_SO:SOIC-16W_7.5x10.3mm_P1.27mm; Datasheet: http://www.allegromicro.com/~/media/Files/Datasheets/ACS717-Datasheet.ashx?la=en; Description_: ±20A Bidirectional, Hall-Effect Current Sensor, +3.3V supply, 66mV/A, SOIC-16W
pins: 1 IP+, 2 IP+, 3 IP+, 4 IP+, 5 IP-, 6 IP-, 7 IP-, 8 IP-, 9 NC, 10 VCC, 11 NC, 12 VIOUT, 13 NC, 14 NC, 15 GND, 16 NC

## ACS718xMATR-10B
designator *  value ACS718xMATR-10B  Reference: U
±10A Bidirectional, Hall-Effect Current Sensor, +5.0V supply, 200mV/A, SOIC-16W; ki_keywords: hall effect current monitor sensor isolated; ki_fp_filters: SOIC*7.5x10.3mm*P1.27mm*; Footprint: Package_SO:SOIC-16W_7.5x10.3mm_P1.27mm; Datasheet: http://www.allegromicro.com/~/media/Files/Datasheets/ACS718-Datasheet.ashx?la=en; Description_: ±10A Bidirectional, Hall-Effect Current Sensor, +5.0V supply, 200mV/A, SOIC-16W
pins: 1 IP+, 2 IP+, 3 IP+, 4 IP+, 5 IP-, 6 IP-, 7 IP-, 8 IP-, 9 NC, 10 VCC, 11 NC, 12 VIOUT, 13 NC, 14 NC, 15 GND, 16 NC

## ACS718xMATR-20B
designator *  value ACS718xMATR-20B  Reference: U
±20A Bidirectional, Hall-Effect Current Sensor, +5.0V supply, 100mV/A, SOIC-16W; ki_keywords: hall effect current monitor sensor isolated; ki_fp_filters: SOIC*7.5x10.3mm*P1.27mm*; Footprint: Package_SO:SOIC-16W_7.5x10.3mm_P1.27mm; Datasheet: http://www.allegromicro.com/~/media/Files/Datasheets/ACS718-Datasheet.ashx?la=en; Description_: ±20A Bidirectional, Hall-Effect Current Sensor, +5.0V supply, 100mV/A, SOIC-16W
pins: 1 IP+, 2 IP+, 3 IP+, 4 IP+, 5 IP-, 6 IP-, 7 IP-, 8 IP-, 9 NC, 10 VCC, 11 NC, 12 VIOUT, 13 NC, 14 NC, 15 GND, 16 NC

## ACS720xMATR-15B
designator *  value ACS720xMATR-15B  Reference: U
±15A Bidirectional, Hall-Effect Current Sensor, +5.0V supply, 90mV/A, SOIC-16W; ki_keywords: hall effect current monitor sensor isolated; ki_fp_filters: SOIC*7.5x10.3mm*P1.27mm*; Footprint: Package_SO:SOIC-16W_7.5x10.3mm_P1.27mm; Datasheet: http://www.allegromicro.com/~/media/Files/Datasheets/ACS720-Datasheet.ashx?la=en; Description_: ±15A Bidirectional, Hall-Effect Current Sensor, +5.0V supply, 90mV/A, SOIC-16W
pins: 1 IP+, 2 IP+, 3 IP+, 4 IP+, 5 IP-, 6 IP-, 7 IP-, 8 IP-, 9 GND, 10 ~{{FAULT_S}}, 11 FILTER, 12 VIOUT, 13 ~{{FAULT_F}}, 14 VCC, 15 VOC_F, 16 VOC_S

## ACS720xMATR-35B
designator *  value ACS720xMATR-35B  Reference: U
±35A Bidirectional, Hall-Effect Current Sensor, +5.0V supply, 38.5mV/A, SOIC-16W; ki_keywords: hall effect current monitor sensor isolated; ki_fp_filters: SOIC*7.5x10.3mm*P1.27mm*; Footprint: Package_SO:SOIC-16W_7.5x10.3mm_P1.27mm; Datasheet: http://www.allegromicro.com/~/media/Files/Datasheets/ACS720-Datasheet.ashx?la=en; Description_: ±35A Bidirectional, Hall-Effect Current Sensor, +5.0V supply, 38.5mV/A, SOIC-16W
pins: 1 IP+, 2 IP+, 3 IP+, 4 IP+, 5 IP-, 6 IP-, 7 IP-, 8 IP-, 9 GND, 10 ~{{FAULT_S}}, 11 FILTER, 12 VIOUT, 13 ~{{FAULT_F}}, 14 VCC, 15 VOC_F, 16 VOC_S

## ACS720xMATR-65B
designator *  value ACS720xMATR-65B  Reference: U
±65A Bidirectional, Hall-Effect Current Sensor, +5.0V supply, 20.5mV/A, SOIC-16W; ki_keywords: hall effect current monitor sensor isolated; ki_fp_filters: SOIC*7.5x10.3mm*P1.27mm*; Footprint: Package_SO:SOIC-16W_7.5x10.3mm_P1.27mm; Datasheet: http://www.allegromicro.com/~/media/Files/Datasheets/ACS720-Datasheet.ashx?la=en; Description_: ±65A Bidirectional, Hall-Effect Current Sensor, +5.0V supply, 20.5mV/A, SOIC-16W
pins: 1 IP+, 2 IP+, 3 IP+, 4 IP+, 5 IP-, 6 IP-, 7 IP-, 8 IP-, 9 GND, 10 ~{{FAULT_S}}, 11 FILTER, 12 VIOUT, 13 ~{{FAULT_F}}, 14 VCC, 15 VOC_F, 16 VOC_S

## ACS722xLCTR-05AB
designator *  value ACS722xLCTR-05AB  Reference: U
±5A Bidirectional Hall-Effect Current Sensor, +3.3V supply, 264mV/A, SOIC-8; ki_keywords: hall effect current monitor sensor isolated; ki_fp_filters: SOIC*3.9x4.9mm*P1.27mm*; Footprint: Package_SO:SOIC-8_3.9x4.9mm_P1.27mm; Datasheet: http://www.allegromicro.com/~/media/Files/Datasheets/ACS722-Datasheet.ashx?la=en; Description_: ±5A Bidirectional Hall-Effect Current Sensor, +3.3V supply, 264mV/A, SOIC-8
pins: 1 IP+, 2 IP+, 3 IP-, 4 IP-, 5 GND, 6 BW_SEL, 7 VIOUT, 8 VCC

## ACS722xLCTR-10AB
designator *  value ACS722xLCTR-10AB  Reference: U
±10A Bidirectional Hall-Effect Current Sensor, +3.3V supply, 132mV/A, SOIC-8; ki_keywords: hall effect current monitor sensor isolated; ki_fp_filters: SOIC*3.9x4.9mm*P1.27mm*; Footprint: Package_SO:SOIC-8_3.9x4.9mm_P1.27mm; Datasheet: http://www.allegromicro.com/~/media/Files/Datasheets/ACS722-Datasheet.ashx?la=en; Description_: ±10A Bidirectional Hall-Effect Current Sensor, +3.3V supply, 132mV/A, SOIC-8
pins: 1 IP+, 2 IP+, 3 IP-, 4 IP-, 5 GND, 6 BW_SEL, 7 VIOUT, 8 VCC

## ACS722xLCTR-10AU
designator *  value ACS722xLCTR-10AU  Reference: U
10A Unidirectional Hall-Effect Current Sensor, +3.3V supply, 264mV/A, SOIC-8; ki_keywords: hall effect current monitor sensor isolated; ki_fp_filters: SOIC*3.9x4.9mm*P1.27mm*; Footprint: Package_SO:SOIC-8_3.9x4.9mm_P1.27mm; Datasheet: http://www.allegromicro.com/~/media/Files/Datasheets/ACS722-Datasheet.ashx?la=en; Description_: 10A Unidirectional Hall-Effect Current Sensor, +3.3V supply, 264mV/A, SOIC-8
pins: 1 IP+, 2 IP+, 3 IP-, 4 IP-, 5 GND, 6 BW_SEL, 7 VIOUT, 8 VCC

## ACS722xLCTR-20AB
designator *  value ACS722xLCTR-20AB  Reference: U
±20A Bidirectional Hall-Effect Current Sensor, +3.3V supply, 66mV/A, SOIC-8; ki_keywords: hall effect current monitor sensor isolated; ki_fp_filters: SOIC*3.9x4.9mm*P1.27mm*; Footprint: Package_SO:SOIC-8_3.9x4.9mm_P1.27mm; Datasheet: http://www.allegromicro.com/~/media/Files/Datasheets/ACS722-Datasheet.ashx?la=en; Description_: ±20A Bidirectional Hall-Effect Current Sensor, +3.3V supply, 66mV/A, SOIC-8
pins: 1 IP+, 2 IP+, 3 IP-, 4 IP-, 5 GND, 6 BW_SEL, 7 VIOUT, 8 VCC

## ACS722xLCTR-20AU
designator *  value ACS722xLCTR-20AU  Reference: U
20A Unidirectional Hall-Effect Current Sensor, +3.3V supply, 132mV/A, SOIC-8; ki_keywords: hall effect current monitor sensor isolated; ki_fp_filters: SOIC*3.9x4.9mm*P1.27mm*; Footprint: Package_SO:SOIC-8_3.9x4.9mm_P1.27mm; Datasheet: http://www.allegromicro.com/~/media/Files/Datasheets/ACS722-Datasheet.ashx?la=en; Description_: 20A Unidirectional Hall-Effect Current Sensor, +3.3V supply, 132mV/A, SOIC-8
pins: 1 IP+, 2 IP+, 3 IP-, 4 IP-, 5 GND, 6 BW_SEL, 7 VIOUT, 8 VCC

## ACS722xLCTR-40AB
designator *  value ACS722xLCTR-40AB  Reference: U
±40A Bidirectional Hall-Effect Current Sensor, +3.3V supply, 33mV/A, SOIC-8; ki_keywords: hall effect current monitor sensor isolated; ki_fp_filters: SOIC*3.9x4.9mm*P1.27mm*; Footprint: Package_SO:SOIC-8_3.9x4.9mm_P1.27mm; Datasheet: http://www.allegromicro.com/~/media/Files/Datasheets/ACS722-Datasheet.ashx?la=en; Description_: ±40A Bidirectional Hall-Effect Current Sensor, +3.3V supply, 33mV/A, SOIC-8
pins: 1 IP+, 2 IP+, 3 IP-, 4 IP-, 5 GND, 6 BW_SEL, 7 VIOUT, 8 VCC

## ACS722xLCTR-40AU
designator *  value ACS722xLCTR-40AU  Reference: U
40A Unidirectional Hall-Effect Current Sensor, +3.3V supply, 66mV/A, SOIC-8; ki_keywords: hall effect current monitor sensor isolated; ki_fp_filters: SOIC*3.9x4.9mm*P1.27mm*; Footprint: Package_SO:SOIC-8_3.9x4.9mm_P1.27mm; Datasheet: http://www.allegromicro.com/~/media/Files/Datasheets/ACS722-Datasheet.ashx?la=en; Description_: 40A Unidirectional Hall-Effect Current Sensor, +3.3V supply, 66mV/A, SOIC-8
pins: 1 IP+, 2 IP+, 3 IP-, 4 IP-, 5 GND, 6 BW_SEL, 7 VIOUT, 8 VCC

## ACS722xMATR-10AB
designator *  value ACS722xMATR-10AB  Reference: U
±10A Bidirectional Hall-Effect Current Sensor, +3.3V supply, 132mV/A, SOIC-16; ki_keywords: hall effect current monitor sensor isolated; ki_fp_filters: SOIC*7.5x10.3mm*P1.27mm*; Footprint: Package_SO:SOIC-16W_7.5x10.3mm_P1.27mm; Datasheet: http://www.allegromicro.com/~/media/Files/Datasheets/ACS722KMA-Datasheet.ashx?la=en; Description_: ±10A Bidirectional Hall-Effect Current Sensor, +3.3V supply, 132mV/A, SOIC-16
pins: 1 IP+, 2 IP+, 3 IP+, 4 IP+, 5 IP-, 6 IP-, 7 IP-, 8 IP-, 9 NC, 10 VCC, 11 NC, 12 VIOUT, 13 BW_SEL, 14 NC, 15 GND, 16 NC

## ACS722xMATR-20AB
designator *  value ACS722xMATR-20AB  Reference: U
±20A Bidirectional Hall-Effect Current Sensor, +3.3V supply, 66mV/A, SOIC-16; ki_keywords: hall effect current monitor sensor isolated; ki_fp_filters: SOIC*7.5x10.3mm*P1.27mm*; Footprint: Package_SO:SOIC-16W_7.5x10.3mm_P1.27mm; Datasheet: http://www.allegromicro.com/~/media/Files/Datasheets/ACS722KMA-Datasheet.ashx?la=en; Description_: ±20A Bidirectional Hall-Effect Current Sensor, +3.3V supply, 66mV/A, SOIC-16
pins: 1 IP+, 2 IP+, 3 IP+, 4 IP+, 5 IP-, 6 IP-, 7 IP-, 8 IP-, 9 NC, 10 VCC, 11 NC, 12 VIOUT, 13 BW_SEL, 14 NC, 15 GND, 16 NC

## ACS722xMATR-40AB
designator *  value ACS722xMATR-40AB  Reference: U
±40A Bidirectional Hall-Effect Current Sensor, +3.3V supply, 33mV/A, SOIC-16; ki_keywords: hall effect current monitor sensor isolated; ki_fp_filters: SOIC*7.5x10.3mm*P1.27mm*; Footprint: Package_SO:SOIC-16W_7.5x10.3mm_P1.27mm; Datasheet: http://www.allegromicro.com/~/media/Files/Datasheets/ACS722KMA-Datasheet.ashx?la=en; Description_: ±40A Bidirectional Hall-Effect Current Sensor, +3.3V supply, 33mV/A, SOIC-16
pins: 1 IP+, 2 IP+, 3 IP+, 4 IP+, 5 IP-, 6 IP-, 7 IP-, 8 IP-, 9 NC, 10 VCC, 11 NC, 12 VIOUT, 13 BW_SEL, 14 NC, 15 GND, 16 NC

## ACS723xLCTR-05AB
designator *  value ACS723xLCTR-05AB  Reference: U
±5A Bidirectional Hall-Effect Current Sensor, +5.0V supply, 400mV/A, SOIC-8; ki_keywords: hall effect current monitor sensor isolated; ki_fp_filters: SOIC*3.9x4.9mm*P1.27mm*; Footprint: Package_SO:SOIC-8_3.9x4.9mm_P1.27mm; Datasheet: http://www.allegromicro.com/~/media/Files/Datasheets/ACS723-Datasheet.ashx?la=en; Description_: ±5A Bidirectional Hall-Effect Current Sensor, +5.0V supply, 400mV/A, SOIC-8
pins: 1 IP+, 2 IP+, 3 IP-, 4 IP-, 5 GND, 6 BW_SEL, 7 VIOUT, 8 VCC

## ACS723xLCTR-10AB
designator *  value ACS723xLCTR-10AB  Reference: U
±10A Bidirectional Hall-Effect Current Sensor, +5.0V supply, 200mV/A, SOIC-8; ki_keywords: hall effect current monitor sensor isolated; ki_fp_filters: SOIC*3.9x4.9mm*P1.27mm*; Footprint: Package_SO:SOIC-8_3.9x4.9mm_P1.27mm; Datasheet: http://www.allegromicro.com/~/media/Files/Datasheets/ACS723-Datasheet.ashx?la=en; Description_: ±10A Bidirectional Hall-Effect Current Sensor, +5.0V supply, 200mV/A, SOIC-8
pins: 1 IP+, 2 IP+, 3 IP-, 4 IP-, 5 GND, 6 BW_SEL, 7 VIOUT, 8 VCC

## ACS723xLCTR-10AU
designator *  value ACS723xLCTR-10AU  Reference: U
10A Unidirectional Hall-Effect Current Sensor, +5.0V supply, 400mV/A, SOIC-8; ki_keywords: hall effect current monitor sensor isolated; ki_fp_filters: SOIC*3.9x4.9mm*P1.27mm*; Footprint: Package_SO:SOIC-8_3.9x4.9mm_P1.27mm; Datasheet: http://www.allegromicro.com/~/media/Files/Datasheets/ACS723-Datasheet.ashx?la=en; Description_: 10A Unidirectional Hall-Effect Current Sensor, +5.0V supply, 400mV/A, SOIC-8
pins: 1 IP+, 2 IP+, 3 IP-, 4 IP-, 5 GND, 6 BW_SEL, 7 VIOUT, 8 VCC

## ACS723xLCTR-20AB
designator *  value ACS723xLCTR-20AB  Reference: U
±20A Bidirectional Hall-Effect Current Sensor, +5.0V supply, 100mV/A, SOIC-8; ki_keywords: hall effect current monitor sensor isolated; ki_fp_filters: SOIC*3.9x4.9mm*P1.27mm*; Footprint: Package_SO:SOIC-8_3.9x4.9mm_P1.27mm; Datasheet: http://www.allegromicro.com/~/media/Files/Datasheets/ACS723-Datasheet.ashx?la=en; Description_: ±20A Bidirectional Hall-Effect Current Sensor, +5.0V supply, 100mV/A, SOIC-8
pins: 1 IP+, 2 IP+, 3 IP-, 4 IP-, 5 GND, 6 BW_SEL, 7 VIOUT, 8 VCC

## ACS723xLCTR-20AU
designator *  value ACS723xLCTR-20AU  Reference: U
20A Unidirectional Hall-Effect Current Sensor, +5.0V supply, 200mV/A, SOIC-8; ki_keywords: hall effect current monitor sensor isolated; ki_fp_filters: SOIC*3.9x4.9mm*P1.27mm*; Footprint: Package_SO:SOIC-8_3.9x4.9mm_P1.27mm; Datasheet: http://www.allegromicro.com/~/media/Files/Datasheets/ACS723-Datasheet.ashx?la=en; Description_: 20A Unidirectional Hall-Effect Current Sensor, +5.0V supply, 200mV/A, SOIC-8
pins: 1 IP+, 2 IP+, 3 IP-, 4 IP-, 5 GND, 6 BW_SEL, 7 VIOUT, 8 VCC

## ACS723xLCTR-40AB
designator *  value ACS723xLCTR-40AB  Reference: U
±40A Bidirectional Hall-Effect Current Sensor, +5.0V supply, 50mV/A, SOIC-8; ki_keywords: hall effect current monitor sensor isolated; ki_fp_filters: SOIC*3.9x4.9mm*P1.27mm*; Footprint: Package_SO:SOIC-8_3.9x4.9mm_P1.27mm; Datasheet: http://www.allegromicro.com/~/media/Files/Datasheets/ACS723-Datasheet.ashx?la=en; Description_: ±40A Bidirectional Hall-Effect Current Sensor, +5.0V supply, 50mV/A, SOIC-8
pins: 1 IP+, 2 IP+, 3 IP-, 4 IP-, 5 GND, 6 BW_SEL, 7 VIOUT, 8 VCC

## ACS723xLCTR-40AU
designator *  value ACS723xLCTR-40AU  Reference: U
40A Unidirectional Hall-Effect Current Sensor, +5.0V supply, 100mV/A, SOIC-8; ki_keywords: hall effect current monitor sensor isolated; ki_fp_filters: SOIC*3.9x4.9mm*P1.27mm*; Footprint: Package_SO:SOIC-8_3.9x4.9mm_P1.27mm; Datasheet: http://www.allegromicro.com/~/media/Files/Datasheets/ACS723-Datasheet.ashx?la=en; Description_: 40A Unidirectional Hall-Effect Current Sensor, +5.0V supply, 100mV/A, SOIC-8
pins: 1 IP+, 2 IP+, 3 IP-, 4 IP-, 5 GND, 6 BW_SEL, 7 VIOUT, 8 VCC

## ACS723xMATR-10AB
designator *  value ACS723xMATR-10AB  Reference: U
±10A Bidirectional Hall-Effect Current Sensor, +5.0V supply, 200mV/A, SOIC-16; ki_keywords: hall effect current monitor sensor isolated; ki_fp_filters: SOIC*7.5x10.3mm*P1.27mm*; Footprint: Package_SO:SOIC-16W_7.5x10.3mm_P1.27mm; Datasheet: http://www.allegromicro.com/~/media/Files/Datasheets/ACS723KMA-Datasheet.ashx?la=en; Description_: ±10A Bidirectional Hall-Effect Current Sensor, +5.0V supply, 200mV/A, SOIC-16
pins: 1 IP+, 2 IP+, 3 IP+, 4 IP+, 5 IP-, 6 IP-, 7 IP-, 8 IP-, 9 NC, 10 VCC, 11 NC, 12 VIOUT, 13 BW_SEL, 14 NC, 15 GND, 16 NC

## ACS723xMATR-20AB
designator *  value ACS723xMATR-20AB  Reference: U
±20A Bidirectional Hall-Effect Current Sensor, +5.0V supply, 100mV/A, SOIC-16; ki_keywords: hall effect current monitor sensor isolated; ki_fp_filters: SOIC*7.5x10.3mm*P1.27mm*; Footprint: Package_SO:SOIC-16W_7.5x10.3mm_P1.27mm; Datasheet: http://www.allegromicro.com/~/media/Files/Datasheets/ACS723KMA-Datasheet.ashx?la=en; Description_: ±20A Bidirectional Hall-Effect Current Sensor, +5.0V supply, 100mV/A, SOIC-16
pins: 1 IP+, 2 IP+, 3 IP+, 4 IP+, 5 IP-, 6 IP-, 7 IP-, 8 IP-, 9 NC, 10 VCC, 11 NC, 12 VIOUT, 13 BW_SEL, 14 NC, 15 GND, 16 NC

## ACS723xMATR-40AB
designator *  value ACS723xMATR-40AB  Reference: U
±40A Bidirectional Hall-Effect Current Sensor, +5.0V supply, 50mV/A, SOIC-16; ki_keywords: hall effect current monitor sensor isolated; ki_fp_filters: SOIC*7.5x10.3mm*P1.27mm*; Footprint: Package_SO:SOIC-16W_7.5x10.3mm_P1.27mm; Datasheet: http://www.allegromicro.com/~/media/Files/Datasheets/ACS723KMA-Datasheet.ashx?la=en; Description_: ±40A Bidirectional Hall-Effect Current Sensor, +5.0V supply, 50mV/A, SOIC-16
pins: 1 IP+, 2 IP+, 3 IP+, 4 IP+, 5 IP-, 6 IP-, 7 IP-, 8 IP-, 9 NC, 10 VCC, 11 NC, 12 VIOUT, 13 BW_SEL, 14 NC, 15 GND, 16 NC

## ACS724xLCTR-05AB
designator *  value ACS724xLCTR-05AB  Reference: U
±5A Bidirectional Hall-Effect Current Sensor, +5.0V supply, 400mV/A, SOIC-8; ki_keywords: hall effect current monitor sensor isolated; ki_fp_filters: SOIC*3.9x4.9m*P1.27mm*; Footprint: Package_SO:SOIC-8_3.9x4.9mm_P1.27mm; Datasheet: http://www.allegromicro.com/~/media/Files/Datasheets/ACS724-Datasheet.ashx?la=en; Description_: ±5A Bidirectional Hall-Effect Current Sensor, +5.0V supply, 400mV/A, SOIC-8
pins: 1 IP+, 2 IP+, 3 IP-, 4 IP-, 5 GND, 6 FILTER, 7 VIOUT, 8 VCC

## ACS724xLCTR-10AB
designator *  value ACS724xLCTR-10AB  Reference: U
±10A Bidirectional Hall-Effect Current Sensor, +5.0V supply, 200mV/A, SOIC-8; ki_keywords: hall effect current monitor sensor isolated; ki_fp_filters: SOIC*3.9x4.9m*P1.27mm*; Footprint: Package_SO:SOIC-8_3.9x4.9mm_P1.27mm; Datasheet: http://www.allegromicro.com/~/media/Files/Datasheets/ACS724-Datasheet.ashx?la=en; Description_: ±10A Bidirectional Hall-Effect Current Sensor, +5.0V supply, 200mV/A, SOIC-8
pins: 1 IP+, 2 IP+, 3 IP-, 4 IP-, 5 GND, 6 FILTER, 7 VIOUT, 8 VCC

## ACS724xLCTR-10AU
designator *  value ACS724xLCTR-10AU  Reference: U
10A Unidirectional Hall-Effect Current Sensor, +5.0V supply, 400mV/A, SOIC-8; ki_keywords: hall effect current monitor sensor isolated; ki_fp_filters: SOIC*3.9x4.9m*P1.27mm*; Footprint: Package_SO:SOIC-8_3.9x4.9mm_P1.27mm; Datasheet: http://www.allegromicro.com/~/media/Files/Datasheets/ACS724-Datasheet.ashx?la=en; Description_: 10A Unidirectional Hall-Effect Current Sensor, +5.0V supply, 400mV/A, SOIC-8
pins: 1 IP+, 2 IP+, 3 IP-, 4 IP-, 5 GND, 6 FILTER, 7 VIOUT, 8 VCC

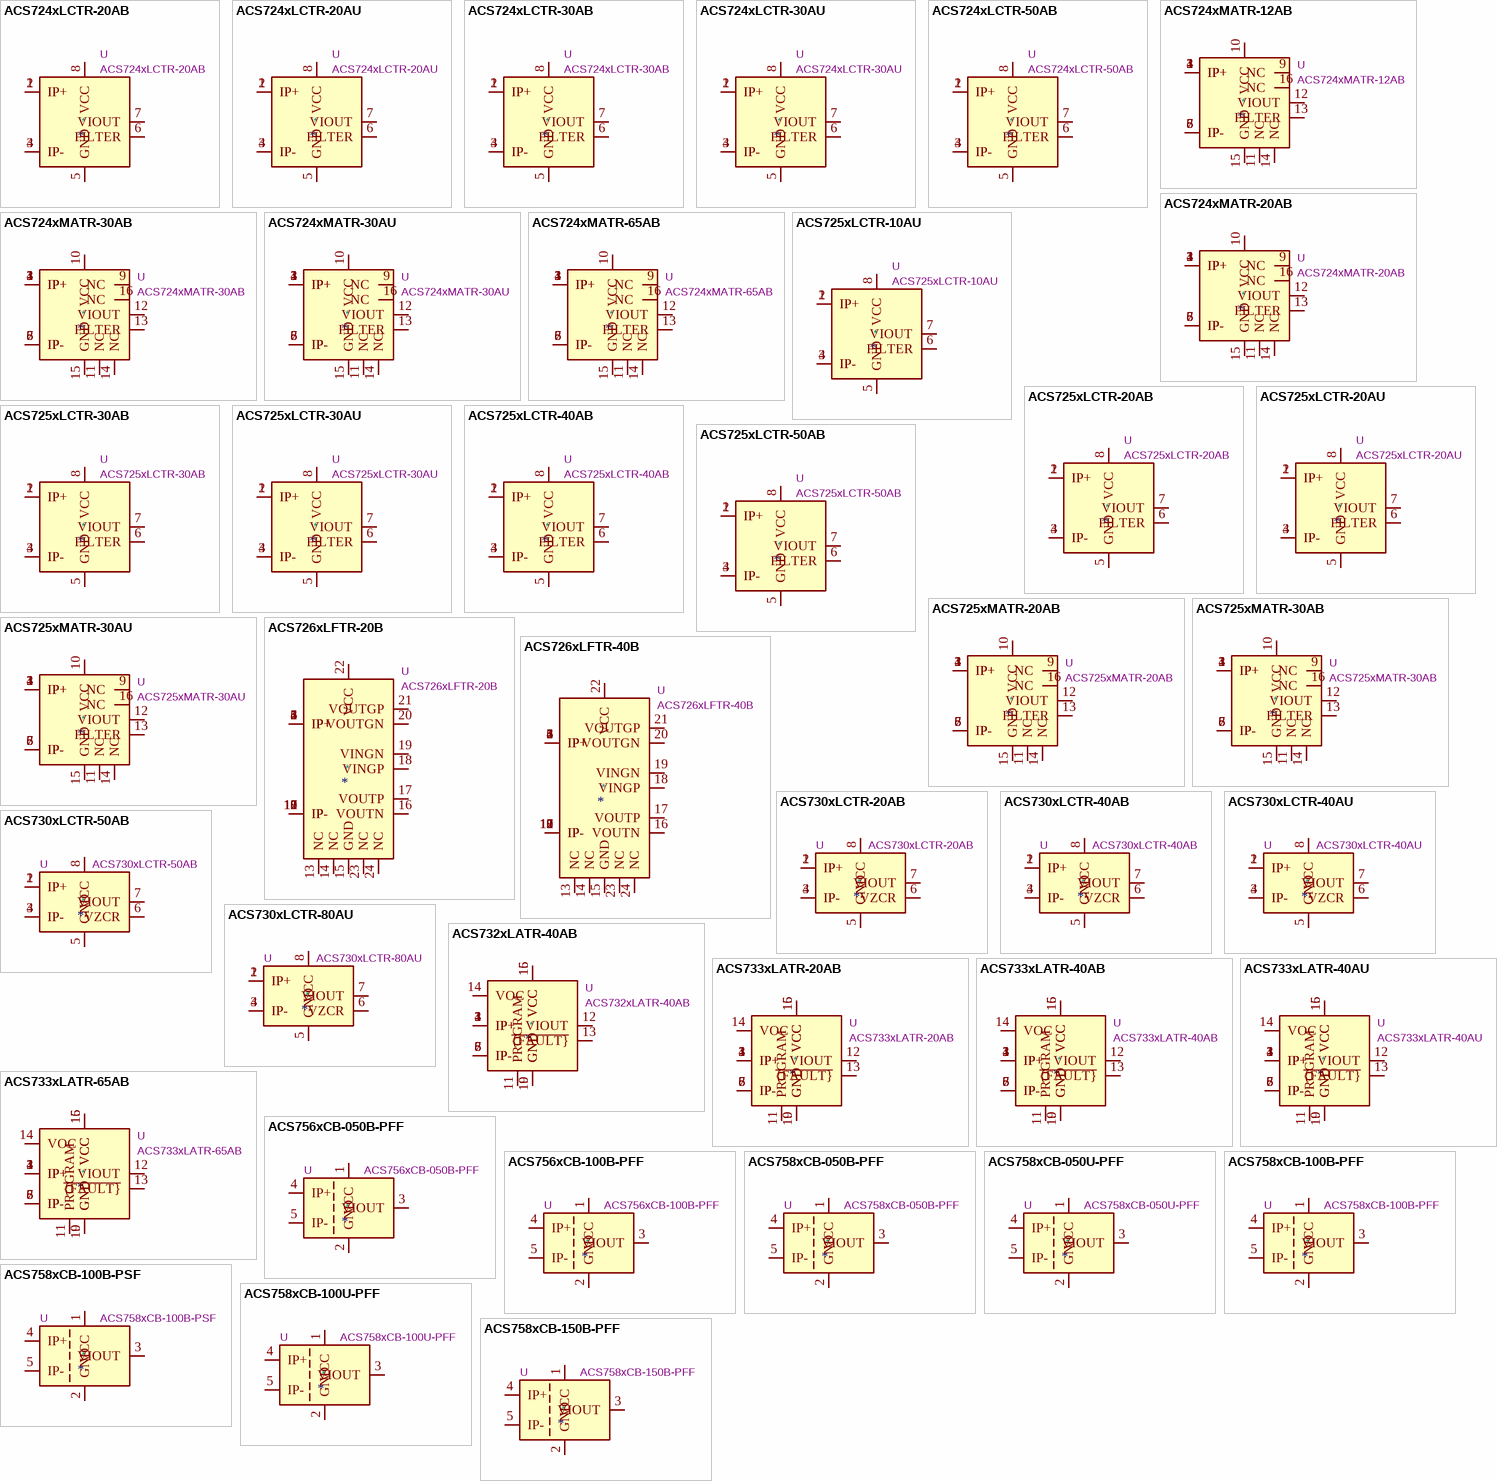
[diagram p2: symbols ACS724xLCTR-20AB to ACS758xCB-150B-PFF]

## ACS724xLCTR-20AB
designator *  value ACS724xLCTR-20AB  Reference: U
±20A Bidirectional Hall-Effect Current Sensor, +5.0V supply, 100mV/A, SOIC-8; ki_keywords: hall effect current monitor sensor isolated; ki_fp_filters: SOIC*3.9x4.9m*P1.27mm*; Footprint: Package_SO:SOIC-8_3.9x4.9mm_P1.27mm; Datasheet: http://www.allegromicro.com/~/media/Files/Datasheets/ACS724-Datasheet.ashx?la=en; Description_: ±20A Bidirectional Hall-Effect Current Sensor, +5.0V supply, 100mV/A, SOIC-8
pins: 1 IP+, 2 IP+, 3 IP-, 4 IP-, 5 GND, 6 FILTER, 7 VIOUT, 8 VCC

## ACS724xLCTR-20AU
designator *  value ACS724xLCTR-20AU  Reference: U
20A Unidirectional Hall-Effect Current Sensor, +5.0V supply, 200mV/A, SOIC-8; ki_keywords: hall effect current monitor sensor isolated; ki_fp_filters: SOIC*3.9x4.9m*P1.27mm*; Footprint: Package_SO:SOIC-8_3.9x4.9mm_P1.27mm; Datasheet: http://www.allegromicro.com/~/media/Files/Datasheets/ACS724-Datasheet.ashx?la=en; Description_: 20A Unidirectional Hall-Effect Current Sensor, +5.0V supply, 200mV/A, SOIC-8
pins: 1 IP+, 2 IP+, 3 IP-, 4 IP-, 5 GND, 6 FILTER, 7 VIOUT, 8 VCC

## ACS724xLCTR-30AB
designator *  value ACS724xLCTR-30AB  Reference: U
±30A Bidirectional Hall-Effect Current Sensor, +5.0V supply, 66mV/A, SOIC-8; ki_keywords: hall effect current monitor sensor isolated; ki_fp_filters: SOIC*3.9x4.9m*P1.27mm*; Footprint: Package_SO:SOIC-8_3.9x4.9mm_P1.27mm; Datasheet: http://www.allegromicro.com/~/media/Files/Datasheets/ACS724-Datasheet.ashx?la=en; Description_: ±30A Bidirectional Hall-Effect Current Sensor, +5.0V supply, 66mV/A, SOIC-8
pins: 1 IP+, 2 IP+, 3 IP-, 4 IP-, 5 GND, 6 FILTER, 7 VIOUT, 8 VCC

## ACS724xLCTR-30AU
designator *  value ACS724xLCTR-30AU  Reference: U
30A Unidirectional Hall-Effect Current Sensor, +5.0V supply, 133mV/A, SOIC-8; ki_keywords: hall effect current monitor sensor isolated; ki_fp_filters: SOIC*3.9x4.9m*P1.27mm*; Footprint: Package_SO:SOIC-8_3.9x4.9mm_P1.27mm; Datasheet: http://www.allegromicro.com/~/media/Files/Datasheets/ACS724-Datasheet.ashx?la=en; Description_: 30A Unidirectional Hall-Effect Current Sensor, +5.0V supply, 133mV/A, SOIC-8
pins: 1 IP+, 2 IP+, 3 IP-, 4 IP-, 5 GND, 6 FILTER, 7 VIOUT, 8 VCC

## ACS724xLCTR-50AB
designator *  value ACS724xLCTR-50AB  Reference: U
±50A Bidirectional Hall-Effect Current Sensor, +5.0V supply, 40mV/A, SOIC-8; ki_keywords: hall effect current monitor sensor isolated; ki_fp_filters: SOIC*3.9x4.9m*P1.27mm*; Footprint: Package_SO:SOIC-8_3.9x4.9mm_P1.27mm; Datasheet: http://www.allegromicro.com/~/media/Files/Datasheets/ACS724-Datasheet.ashx?la=en; Description_: ±50A Bidirectional Hall-Effect Current Sensor, +5.0V supply, 40mV/A, SOIC-8
pins: 1 IP+, 2 IP+, 3 IP-, 4 IP-, 5 GND, 6 FILTER, 7 VIOUT, 8 VCC

## ACS724xMATR-12AB
designator *  value ACS724xMATR-12AB  Reference: U
±12A Bidirectional Hall-Effect Current Sensor, +5.0V supply, 166mV/A, SOIC-16; ki_keywords: hall effect current monitor sensor isolated; ki_fp_filters: SOIC*7.5x10.3mm*P1.27mm*; Footprint: Package_SO:SOIC-16W_7.5x10.3mm_P1.27mm; Datasheet: http://www.allegromicro.com/~/media/Files/Datasheets/ACS724KMA-Datasheet.ashx?la=en; Description_: ±12A Bidirectional Hall-Effect Current Sensor, +5.0V supply, 166mV/A, SOIC-16
pins: 1 IP+, 2 IP+, 3 IP+, 4 IP+, 5 IP-, 6 IP-, 7 IP-, 8 IP-, 9 NC, 10 VCC, 11 NC, 12 VIOUT, 13 FILTER, 14 NC, 15 GND, 16 NC